# Altium schematic symbol library cell_adapter.SchLib: 4 symbols
Pins are listed as number, name and electrical type; pins without a type are passive.

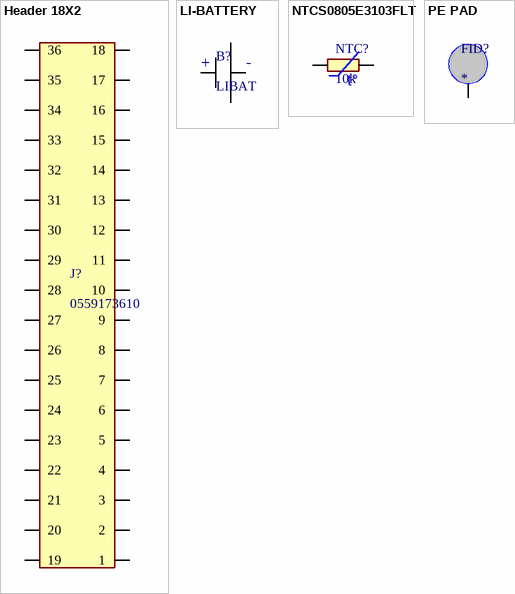
[diagram p0: symbols Header 18X2 to PE PAD]

## Header 18X2
designator J?, comment 0559173610
CONN HEADER VERT 36POS 2MM; Manufacturer_Name: Molex; Datasheet Link: https://www.molex.com/en-us/products/part-detail-pdf/559173610?display=pdf; Height: 9.95mm; Manufacturer_Part_Number: 0559173610
footprint MICROFIT 36 VER
pins: 1, 2, 3, 4, 5, 6, 7, 8, 9, 10, 11, 12, 13, 14, 15, 16, 17, 18, 19, 20, 21, 22, 23, 24, 25, 26, 27, 28, 29, 30, 31, 32, 33, 34, 35, 36

## LI-BATTERY
designator B?, comment LIBAT
footprint Li-BATTERY
pins: 1, 2
text: +; -

## NTCS0805E3103FLT
designator NTC?, comment 10k
THERMISTOR NTC 10KOHM 3430K 0805; Manufacturer_Name: Vishay; Manufacturer_Part_Number: NTCS0805E3103FLT; Datasheet Link: http://www.vishay.com/docs/29044/ntcs0805e3t.pdf; Height: 0.95mm; Mouser Part Number: 594-NTCS0805E3103FLT; Mouser Price/Stock: https://www.mouser.co.uk/ProductDetail/Vishay-BC-Components/NTCS0805E3103FLT?qs=%2FWiulJ9oly4Pd4lidS66Yw%3D%3D; Arrow Part Number: NTCS0805E3103FLT; Arrow Price/Stock: https://www.arrow.com/en/products/ntcs0805e3103flt/vishay
footprint NTC0805-HC
pins: 1, 2
text: t°

## PE PAD
designator FID?
FIDUCIAL
footprint FIDUCIAL
pins: 1